# Altium footprint library GENERIC_MALE_HEADER_2x5.PcbLib: 1 footprints
Each footprint in its own frame and in the unit in brackets; x right, y up, seen from the top. Pads: shape width x height; smd on the part's side, far side on the other; paste and mask are expansions set on the pad; w line width, h text height; cw(c..) or ccw(c..) is an arc to the next point about the centre after c.
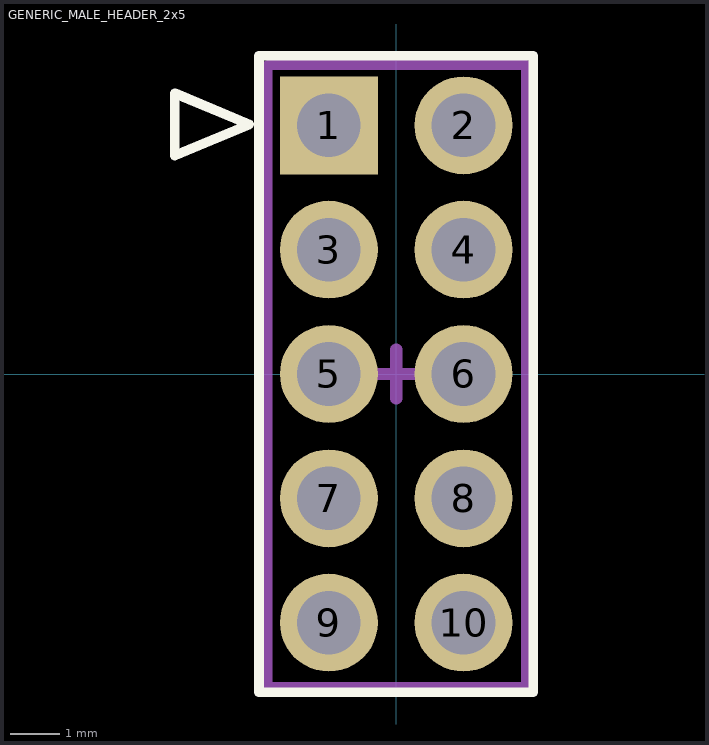
[diagram p0: the footprint, top view; thin cyan lines are the x and y axes]

## GENERIC_MALE_HEADER_2x5 [mm]
pads (10):
  rect 2x2 hole 1.3 mask+0.051: 1(-1.375,5.08)
  round 2 hole 1.3 mask+0.051: 2(1.375,5.08) 3(-1.375,2.54) 4(1.375,2.54) 5(-1.375,0) 6(1.375,0) 7(-1.375,-2.54) 8(1.375,-2.54) 9(-1.375,-5.08) 10(1.375,-5.08)
Top Overlay:
  lines w0.2: -4.524,4.465 -4.524,5.735 -3,5.1 -4.524,4.465 ; -2.8,-6.5 2.8,-6.5 2.8,6.5 -2.8,6.5 -2.8,-6.5
Top Designator:
  text ".Designator" at -7.605,-0.049 h1.52
3D Body:
  lines w0.2: -2.625,-6.39 -2.625,6.31 2.65,6.31 2.65,-6.39 -2.625,-6.39
Center Cross:
  lines w0.25: -0.5,0 0,0 ; 0,-0.5 0,0 ; 0,0.5 0,0 ; 0.5,0 0,0
3D body "1x5 Male Pin Header.stp": height 9.5, standoff -3.2, extent 0.125,-6.39 2.665,6.31
3D body "1x5 Male Pin Header.stp": height 9.5, standoff -3.2, extent -2.625,-6.39 -0.085,6.31